# Altium schematic symbol library TPS65133.SchLib: 1 symbol
Pins are listed as number, name and electrical type; pins without a type are passive.

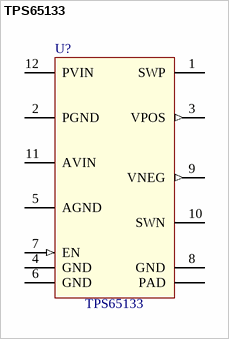
[diagram p0: symbol TPS65133]

## TPS65133
designator U?
±5V, 250-mA Dual-Output Power Supply; Value: TPS65133
footprint WSON-12-3x3 (WSON, 12-pins, 3x3mm, 0.8mm max height)
pins: 1 SWP, 2 PGND (power), 3 VPOS (out), 4 GND (power), 5 AGND (power), 6 GND (power), 7 EN (in), 8 GND (power), 9 VNEG (out), 10 SWN, 11 AVIN (power), 12 PVIN (power), PAD (power)